# EAGLE library part RFID-RC522 (library Module)
MFRC522 RFID Module Created by: Wai Weng
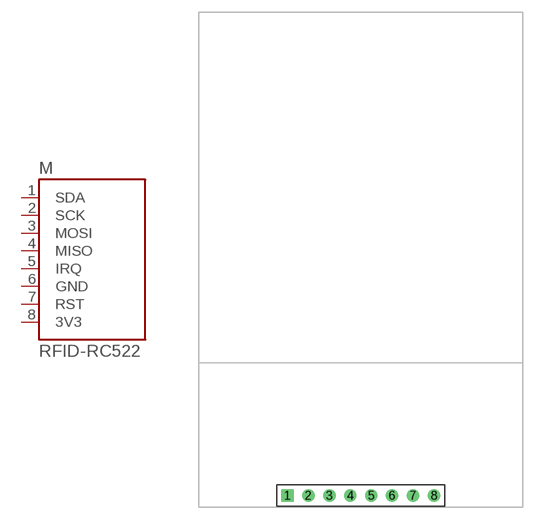
[diagram p12: symbol with the pads of RFID-RC522; footprint RFID-RC522]

Designator prefix M

## RFID-RC522 (DESC: MFRC522 RFID Module; MPN: RFID-RC522)  [RFID-RC522]
1  SDA
2  SCK
3  MOSI
4  MISO
5  IRQ
6  GND
7  RST
8  3V3

## Footprint RFID-RC522 (pad centres in mm)
MFRC522 RFID Module Created by: Wai Weng
drill 1 square: 1 -8.89,0
drill 1: 2 -6.35,0; 3 -3.81,0; 4 -1.27,0; 5 1.27,0; 6 3.81,0; 7 6.35,0; 8 8.89,0